# EAGLE library part JTAG-HEADER (library teensylu)
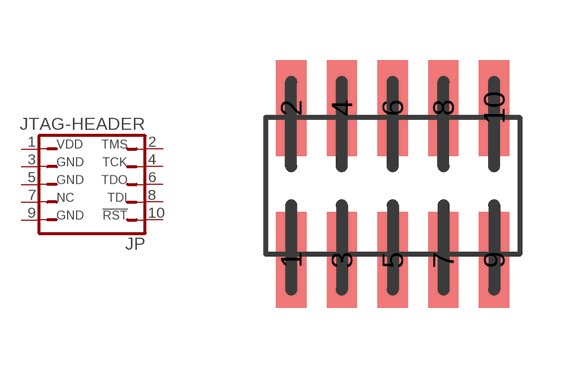
[diagram p10: symbol with the pads of 2X05-0.5-SMD; footprint 2X05-0.5-SMD]

Designator prefix JP

## JTAG-HEADER (DESCRIPTION: CONN HEADER 10POS DL UNSHRD SMD; MANUFACTURER: FCI; MANUFACTURER_PART_NUMBER: 20021121-00010C4LF)  [2X05-0.5-SMD]
1  1  pas
2  2  pas
3  3  pas
4  4  pas
5  5  pas
6  6  pas
7  7  pas
8  8  pas
9  9  pas
10  10  pas

## Footprint 2X05-0.5-SMD (pad centres in mm)
smd 0.76 x 2.4: 1 -2.54,-1.86; 2 -2.54,1.95; 3 -1.27,-1.86; 4 -1.27,1.95; 5 0,-1.86; 6 0,1.95; 7 1.27,-1.86; 8 1.27,1.95; 9 2.54,-1.86; 10 2.54,1.95